# Altium footprint library PowerSupply.PcbLib: 12 footprints
Each footprint in its own frame and in the unit in brackets; x right, y up, seen from the top. Pads: shape width x height; smd on the part's side, far side on the other; paste and mask are expansions set on the pad; w line width, h text height; cw(c..) or ccw(c..) is an arc to the next point about the centre after c.
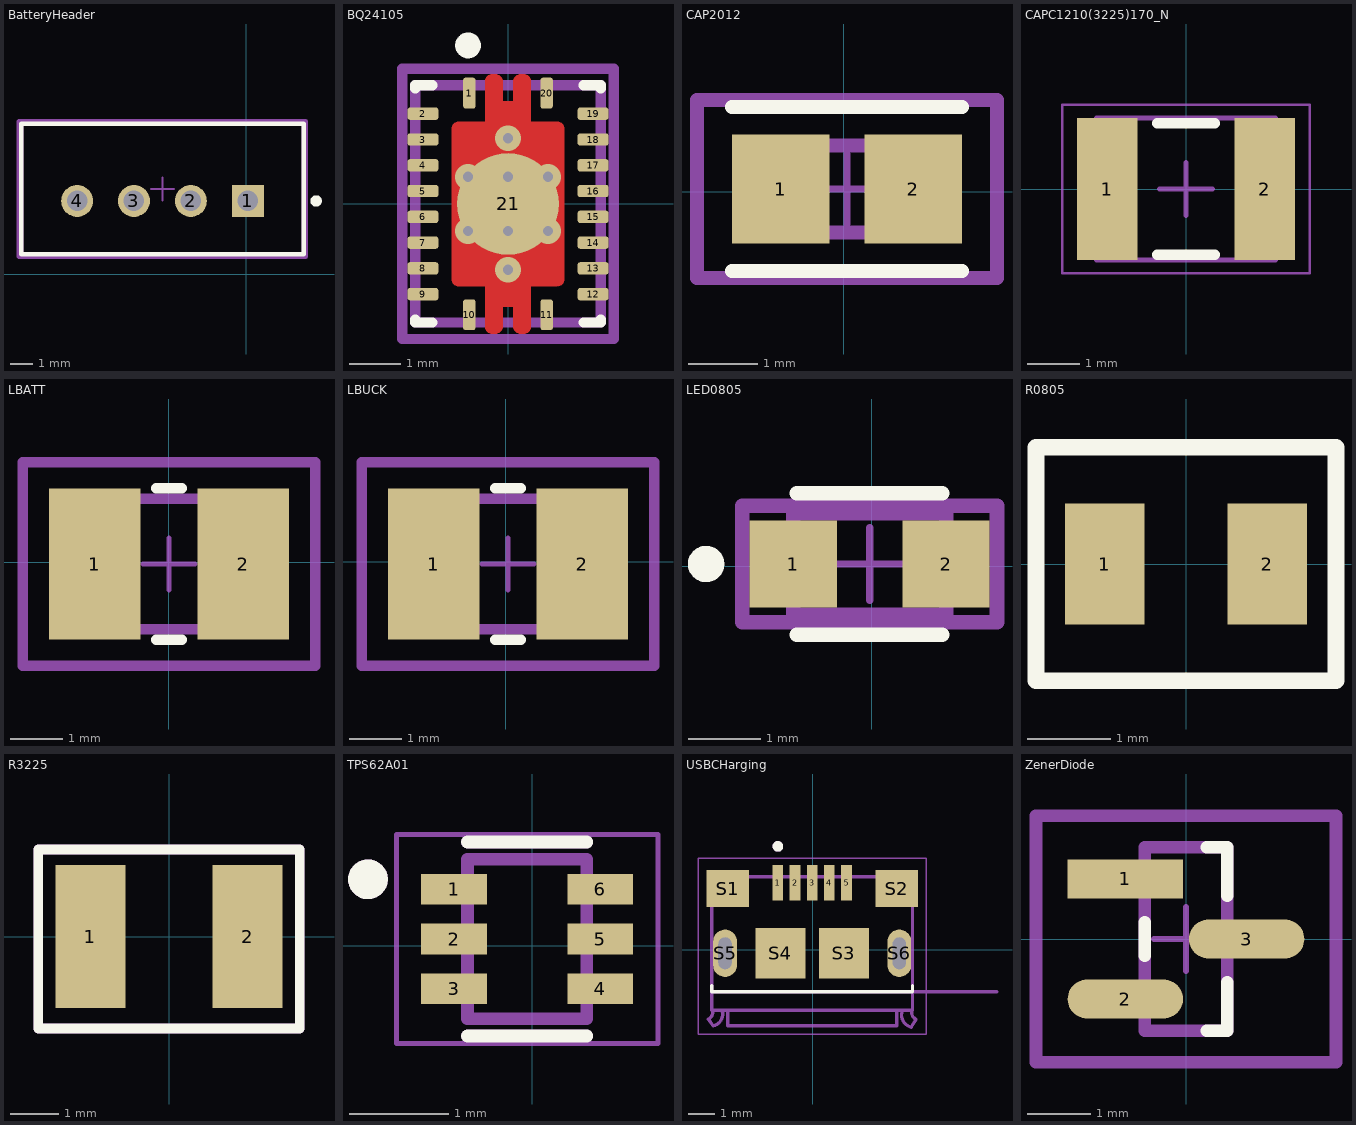
[diagram p0: the footprints below, top view; thin cyan lines are the x and y axes]

## BatteryHeader [mm]
pads (4):
  rect 1.4x1.4 hole 0.9 paste-1000: 1(0.07,3.212)
  round 1.4 hole 0.9 paste-1000: 2(-2.43,3.212) 3(-4.93,3.212) 4(-7.43,3.212)
Top Overlay:
  circle w0.25: c3.07,3.212 r0.125
  lines w0.2: -9.88,0.862 2.52,0.862 2.52,6.612 -9.88,6.612 -9.88,0.862
Top 3D Body:
  lines w0.2: -9.88,0.862 2.52,0.862 2.52,6.612 -9.88,6.612 -9.88,0.862
Board:
  lines w0.2: -9.98,0.762 2.62,0.762 2.62,6.712 -9.98,6.712 -9.98,0.762
Top Assembly:
  lines w0.2: -9.98,0.762 2.62,0.762 2.62,6.712 -9.98,6.712 -9.98,0.762
  text ".Designator" at -3.68,3.925 h1
Top Component Center:
  lines w0.1: -4.18,3.737 -3.18,3.737 ; -3.68,3.237 -3.68,4.237
3D body "Conn_JST_B4B-XH-A_LF_SN_eec.STEP": height 0.25, standoff 0, extent -9.9,0.625 2.7,6.575

## BQ24105 [mm]
pads (21):
  rrect42% 0.24x0.6 smd paste+0 mask+0: 1(-0.75,2.15) 10(-0.75,-2.15) 11(0.75,-2.15) 20(0.75,2.15)
  rrect42% 0.6x0.24 smd paste+0 mask+0: 2(-1.65,1.75) 3(-1.65,1.25) 4(-1.65,0.75) 5(-1.65,0.25) 6(-1.65,-0.25) 7(-1.65,-0.75) 8(-1.65,-1.25) 9(-1.65,-1.75) 12(1.65,-1.75) 13(1.65,-1.25) 14(1.65,-0.75) 15(1.65,-0.25) 16(1.65,0.25) 17(1.65,0.75) 18(1.65,1.25) 19(1.65,1.75)
  round 1.971 smd paste-1000 mask-1000: 21(0,0)
via 0,-1.275 diameter 0.5 hole 0.2
via 0.775,-0.525 diameter 0.5 hole 0.2
via 0,-0.525 diameter 0.5 hole 0.2
via -0.775,-0.525 diameter 0.5 hole 0.2
via 0.775,0.525 diameter 0.5 hole 0.2
via 0,0.525 diameter 0.5 hole 0.2
via -0.775,0.525 diameter 0.5 hole 0.2
via 0,1.275 diameter 0.5 hole 0.2
Top Layer:
  region: -1.095,1.455 -1.095,1.483 -1.074,1.534 -1.034,1.574 -0.983,1.595 -0.955,1.595 -0.445,1.595 -0.445,2.38 -0.445,2.408 -0.424,2.459 -0.384,2.499 -0.333,2.52 -0.305,2.52 -0.245,2.52 -0.217,2.52 -0.166,2.499 -0.126,2.459 -0.105,2.408 -0.105,2.38 -0.105,1.995 0.105,1.995 0.105,2.38 0.105,2.408 0.126,2.459 0.166,2.499 0.217,2.52 0.245,2.52 0.305,2.52 0.333,2.52 0.384,2.499 0.424,2.459 0.445,2.408 0.445,2.38 0.445,1.595 0.955,1.595 0.983,1.595 1.034,1.574 1.074,1.534 1.095,1.483 1.095,1.455 1.095,-1.455 1.095,-1.483 1.074,-1.534 1.034,-1.574 0.983,-1.595 0.955,-1.595 0.445,-1.595 0.445,-2.38 0.445,-2.408 0.424,-2.459 0.384,-2.499 0.333,-2.52 0.305,-2.52 0.245,-2.52 0.217,-2.52 0.166,-2.499 0.126,-2.459 0.105,-2.408 0.105,-2.38 0.105,-1.995 -0.105,-1.995 -0.105,-2.38 -0.105,-2.408 -0.126,-2.459 -0.166,-2.499 -0.217,-2.52 -0.245,-2.52 -0.305,-2.52 -0.333,-2.52 -0.384,-2.499 -0.424,-2.459 -0.445,-2.408 -0.445,-2.38 -0.445,-1.595 -0.955,-1.595 -0.983,-1.595 -1.034,-1.574 -1.074,-1.534 -1.095,-1.483 -1.095,-1.455
Top Overlay:
  circle w0.25: c-0.775,3.075 r0.125
  lines w0.2: -1.8,-2.245 -1.8,-2.3 -1.47,-2.3 ; -1.8,2.245 -1.8,2.3 -1.47,2.3 ; 1.47,-2.3 1.8,-2.3 1.8,-2.245 ; 1.47,2.3 1.8,2.3 1.8,2.245
Top Paste:
  drawing of 8 lines, arcs and shapes, not listed
Top Solder:
  region: -1.025,1.475 -1.025,1.485 -1.017,1.503 -1.003,1.517 -0.985,1.525 -0.975,1.525 -0.375,1.525 -0.375,2.4 -0.375,2.41 -0.367,2.428 -0.353,2.442 -0.335,2.45 -0.325,2.45 -0.225,2.45 -0.215,2.45 -0.197,2.442 -0.183,2.428 -0.175,2.41 -0.175,2.4 -0.175,1.925 0.175,1.925 0.175,2.4 0.175,2.41 0.183,2.428 0.197,2.442 0.215,2.45 0.225,2.45 0.325,2.45 0.335,2.45 0.353,2.442 0.367,2.428 0.375,2.41 0.375,2.4 0.375,1.525 0.975,1.525 0.985,1.525 1.003,1.517 1.017,1.503 1.025,1.485 1.025,1.475 1.025,-1.425 1.025,-1.435 1.017,-1.453 1.003,-1.467 0.985,-1.475 0.975,-1.475 0.375,-1.475 0.375,-2.4 0.375,-2.41 0.367,-2.428 0.353,-2.442 0.335,-2.45 0.325,-2.45 0.225,-2.45 0.215,-2.45 0.197,-2.442 0.183,-2.428 0.175,-2.41 0.175,-2.4 0.175,-1.925 -0.175,-1.925 -0.175,-2.4 -0.175,-2.41 -0.183,-2.428 -0.197,-2.442 -0.215,-2.45 -0.225,-2.45 -0.325,-2.45 -0.335,-2.45 -0.353,-2.442 -0.367,-2.428 -0.375,-2.41 -0.375,-2.4 -0.375,-1.525 -0.975,-1.525 -0.985,-1.525 -1.003,-1.517 -1.017,-1.503 -1.025,-1.485 -1.025,-1.475
Top 3D Body:
  lines w0.2: -1.8,-2.3 -1.8,2.3 1.8,2.3 1.8,-2.3 -1.8,-2.3
Board:
  lines w0.2: -2.05,-2.62 -2.05,2.62 2.05,2.62 2.05,-2.62 -2.05,-2.62
Top Assembly:
  lines w0.2: -2.05,-2.62 -2.05,2.62 2.05,2.62 2.05,-2.62 -2.05,-2.62
  text ".Designator" at 0,0.188 h1
Top Component Center:
  lines w0.1: -0.5,0 0.5,0 ; 0,-0.5 0,0.5
3D body "IC_Texas_Instruments_TPS61088RHLT_eec.STEP": height 0.25, standoff 0, extent -2.05,-2.62 2.05,2.62

## CAP2012 [mil]
pads (2):
  rect 55.42x61.5 smd paste+0 mask+0: 1(-35.6,1.46) 2(39.38,1.46)
Top Overlay:
  lines w7.87: -63.31,-45.04 67.09,-45.04 ; -63.31,47.96 67.09,47.96
Top 3D Body:
  lines w7.87: -37.48,-23.15 -37.48,26.06 41.26,26.06 41.26,-23.15 -37.48,-23.15
Board:
  lines w7.87: -82.99,-48.98 -82.99,51.89 86.77,51.89 86.77,-48.98 -82.99,-48.98
Top Assembly:
  lines w7.87: -82.99,-48.98 -82.99,51.89 86.77,51.89 86.77,-48.98 -82.99,-48.98
  text ".Designator" at 1.89,8.85 h39.37
Top Component Center:
  lines w3.94: -17.8,1.46 21.57,1.46 ; 1.89,-18.23 1.89,21.14
3D body "Cap_Taiyo_Yuden_EMK212BBJ226MG-T_eec.STEP": height 10, standoff 0, extent -82.99,-48.98 86.77,51.89

## CAPC1210(3225)170_N [mm] "Chip Capacitor, Body 3.2x2.5mm, Height 1.7mm, IPC Medium Density"
height 1.7
pads (2):
  rect 1.15x2.7 smd: 1(-1.5,0) 2(1.5,0)
Top Overlay:
  lines w0.2: -0.55,-1.25 0.55,-1.25 ; -0.55,1.25 0.55,1.25
Mechanical 13:
  lines w0.1: -1.7,-1.35 1.7,-1.35 1.7,1.35 -1.7,1.35 -1.7,-1.35
Mechanical 15:
  lines w0.05: -2.35,-1.6 2.35,-1.6 2.35,1.6 -2.35,1.6 -2.35,-1.6
  lines w0.1: -0.5,0 0.5,0 ; 0,-0.5 0,0.5
3D body: height 1.7, standoff 0, extent 1.2,-1.35 1.7,1.35
3D body: height 1.7, standoff 0, extent -1.7,-1.35 -1.2,1.35
3D body: height 1.7, standoff 0, extent -1.2,-1.35 1.2,1.35

## LBATT [mm]
pads (2):
  rect 1.753x2.904 smd paste+0 mask+0: 1(-1.424,-0.031) 2(1.426,-0.031)
Top Overlay:
  lines w0.2: -0.248,-1.483 0.25,-1.483 ; -0.248,1.421 0.25,1.421
Top 3D Body:
  lines w0.2: -1.599,-1.281 -1.599,1.219 1.601,1.219 1.601,-1.281 -1.599,-1.281
Board:
  lines w0.2: -2.801,-1.983 -2.801,1.921 2.803,1.921 2.803,-1.983 -2.801,-1.983
Top Assembly:
  lines w0.2: -2.801,-1.983 -2.801,1.921 2.803,1.921 2.803,-1.983 -2.801,-1.983
  text ".Designator" at 0.001,0.157 h1
Top Component Center:
  lines w0.1: -0.499,-0.031 0.501,-0.031 ; 0.001,-0.531 0.001,0.469
3D body "Ind_Murata_DFE322520FD-4R7M=P2_eec.STEP": height 0.25, standoff 0, extent -2.801,-1.983 2.803,1.921

## LBUCK [mm]
pads (2):
  rect 1.753x2.904 smd paste+0 mask+0: 1(-1.38,-0.047) 2(1.47,-0.047)
Top Overlay:
  lines w0.2: -0.204,-1.499 0.294,-1.499 ; -0.204,1.405 0.294,1.405
Top 3D Body:
  lines w0.2: -1.555,-1.297 1.645,-1.297 1.645,1.203 -1.555,1.203 -1.555,-1.297
Board:
  lines w0.2: -2.757,-1.999 2.847,-1.999 2.847,1.905 -2.757,1.905 -2.757,-1.999
Top Assembly:
  lines w0.2: -2.757,-1.999 2.847,-1.999 2.847,1.905 -2.757,1.905 -2.757,-1.999
  text ".Designator" at 0.045,0.141 h1
Top Component Center:
  lines w0.1: -0.455,-0.047 0.545,-0.047 ; 0.045,-0.547 0.045,0.453
3D body "Ind_Murata_DFE322520FD-4R7M=P2_eec.STEP": height 0.25, standoff 0, extent -2.757,-1.999 2.847,1.905

## LED0805 [mm]
pads (2):
  rect 1.2x1.2 smd paste+0 mask+0: 1(-1.075,0.029) 2(1.025,0.029)
Top Overlay:
  circle w0.25: c-2.275,0.029 r0.125
  lines w0.2: -1.025,-0.946 0.975,-0.946 ; -1.025,1.004 0.975,1.004
Top 3D Body:
  lines w0.2: -1.075,-0.671 1.025,-0.671 1.025,0.729 -1.075,0.729 -1.075,-0.671
Board:
  lines w0.2: -1.775,-0.771 1.725,-0.771 1.725,0.829 -1.775,0.829 -1.775,-0.771
Top Assembly:
  lines w0.2: -1.775,-0.771 1.725,-0.771 1.725,0.829 -1.775,0.829 -1.775,-0.771
  text ".Designator" at -0.025,0.028 h1
Top Component Center:
  lines w0.1: -0.525,0.029 0.475,0.029 ; -0.025,-0.471 -0.025,0.529
3D body "Diode_OSRAM_LS_R976-NR-1_eec.STEP": height 0.25, standoff 0, extent -1.775,-0.771 1.725,0.829

## R0805 [mm]
pads (2):
  rect 0.95x1.45 smd: 1(-0.975,0) 2(0.975,0)
Top Overlay:
  lines w0.2: -1.8,-1.4 -1.8,1.4 1.8,1.4 1.8,-1.4 -1.8,-1.4

## R3225 [mm]
pads (2):
  rect 1.45x2.95 smd: 1(-1.625,0) 2(1.625,0)
Top Overlay:
  lines w0.2: -2.7,-1.9 -2.7,1.8 2.7,1.8 2.7,-1.9 -2.7,-1.9
Mechanical 29:
  lines w0.2: -2.7,-1.9 -2.7,1.8 2.7,1.8 2.7,-1.9 -2.7,-1.9
  text "'.Designator'" at -2,-0.767 h0.7
3D body "User Library-RESC3225X06N.SLDPRT": height 0.55, standoff 0, extent -1.6,-1.25 1.6,1.25

## TPS62A01 [mm]
pads (6):
  rect 0.66x0.31 smd: 1(-0.788,0.567) 2(-0.788,0.067) 3(-0.788,-0.433) 4(0.682,-0.433) 5(0.682,0.067) 6(0.682,0.567)
Top Overlay:
  circle w0.2: c-1.653,0.667 r0.1
  lines w0.127: -0.653,-0.908 0.547,-0.908 ; -0.653,1.042 0.547,1.042
Mechanical 13:
  circle w0.2: c-1.653,0.667 r0.1
  lines w0.127: -0.653,-0.733 -0.653,0.867 0.547,0.867 0.547,-0.733 -0.653,-0.733
Mechanical 15:
  lines w0.05: -1.368,-0.983 -1.368,1.117 1.262,1.117 1.262,-0.983 -1.368,-0.983
Mechanical 29:
  circle w0.2: c-1.653,0.667 r0.1
  lines w0.127: -0.653,-0.908 0.547,-0.908 ; -0.653,1.042 0.547,1.042
3D body "TLV62585DRLR.STEP": height 0.61, standoff 0.01, extent -0.8,-0.8 0.8,0.8

## USBCHarging [mm]
pads (11):
  rect 0.4x1.35 smd: 1(-1.318,2.544) 2(-0.668,2.544) 3(-0.018,2.544) 4(0.632,2.544) 5(1.282,2.544)
  rect 1.6x1.4 smd: S1(-3.218,2.319) S2(3.182,2.319)
  rect 1.9x1.9 smd: S3(1.182,-0.131) S4(-1.218,-0.131)
  oval 0.9x1.8 hole 0.5 slot 1.2 at 90 deg: S5(-3.318,-0.131) S6(3.282,-0.131)
Top Overlay:
  circle w0.2: c-1.318,3.919 r0.1
  lines w0.127: -3.818,-1.351 -3.818,-1.581 3.782,-1.581 3.782,-1.351
Mechanical 13:
  circle w0.2: c-1.318,3.919 r0.1
  lines w0.127: -3.818,-1.581 3.782,-1.581 ; -3.768,-2.881 -3.948,-2.631 ccw(c-4.083,-2.366) -3.818,-2.231 ; -3.764,-2.88 ccw(c-3.868,-2.431) -3.419,-2.327 ; -3.218,-2.331 -3.218,-2.881 3.182,-2.881 3.182,-2.331 ; 3.383,-2.329 ccw(c3.857,-2.456) 3.73,-2.93 ; 3.732,-2.931 3.912,-2.631 cw(c4.047,-2.366) 3.782,-2.231 ; 6.982,-1.581 3.782,-1.581 ; -3.818,-2.231 -3.818,2.769 3.782,2.769 3.782,-1.581 ; -3.818,-2.231 -3.818,-2.281 3.782,-2.281 3.782,-1.581
  text "PCB END" at 4.832,-1.331 h0.41
Mechanical 15:
  lines w0.05: -4.338,-3.197 4.302,-3.197 4.302,3.469 -4.338,3.469 -4.338,-3.197
3D body "10118193-0001LF--3DModel-STEP-56544.STEP": height 2.81, standoff -0.79, extent -3.93,-2.76 3.93,2.95

## ZenerDiode [mm]
pads (3):
  rect 1.824x0.618 smd paste+0 mask+0: 1(-0.96,0.95)
  rrect100% 1.824x0.618 smd paste+0 mask+0: 2(-0.96,-0.95) 3(0.96,0)
Top Overlay:
  lines w0.2: -0.65,-0.266 -0.65,0.266 ; 0.327,-1.45 0.65,-1.45 0.65,-0.684 ; 0.327,1.45 0.65,1.45 0.65,0.684
Top 3D Body:
  lines w0.2: -0.65,-1.45 0.65,-1.45 0.65,1.45 -0.65,1.45 -0.65,-1.45
Top Courtyard:
  lines w0.2: -2.372,-1.95 2.372,-1.95 2.372,1.95 -2.372,1.95 -2.372,-1.95
Top Assembly:
  lines w0.2: -2.372,-1.95 2.372,-1.95 2.372,1.95 -2.372,1.95 -2.372,-1.95
  text ".Designator" at 0,-0.001 h1
Top Component Center:
  lines w0.1: -0.5,0 0.5,0 ; 0,-0.5 0,0.5
3D body "IC_ON_Semiconductor_NUD3112LT1G_eec.STEP": height 0.25, standoff 0, extent -2.372,-1.95 2.372,1.95